# Altium schematic symbol library Schlib1.SchLib: 2 symbols
Pins are listed as number, name and electrical type; pins without a type are passive.

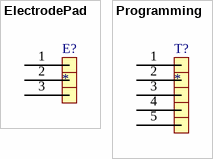
[diagram p0: symbols ElectrodePad to Programming]

## ElectrodePad
designator E?
Rule: UNIONINDEX=0|RULEKIND=FabricationTestpoint|NETSCOPE=AnyNet|LAYERKIND=SameLayer|NAME=Schematic Fabrication Testpoint Style|SIDE=2|TESTPOINTUNDERCOMPONENT=TRUE|MINSIZE=40mil|MAXSIZE=100mil|PREFEREDSIZE=60mil|MINHOLESIZE=0mil|MAXHOLESIZE=40mil|PREFEREDHOLESIZE=32mil|TESTPOINTGRID=1mil|ALLOWSIDEBOTTOM=TRUE|USEGRID=TRUE|GRIDTOLERANCE=0.01mil|UNIT=Imperial
footprint pad
pins: 1, 2, 3

## Programming
designator T?
Rule: UNIONINDEX=0|RULEKIND=FabricationTestpoint|NETSCOPE=AnyNet|LAYERKIND=SameLayer|NAME=Schematic Fabrication Testpoint Style|SIDE=2|TESTPOINTUNDERCOMPONENT=TRUE|MINSIZE=40mil|MAXSIZE=100mil|PREFEREDSIZE=60mil|MINHOLESIZE=0mil|MAXHOLESIZE=40mil|PREFEREDHOLESIZE=32mil|TESTPOINTGRID=1mil|ALLOWSIDEBOTTOM=TRUE|USEGRID=TRUE|GRIDTOLERANCE=0.01mil|UNIT=Imperial
footprint Programming
pins: 1, 2, 3, 4, 5